# Altium footprint library Anemoia.PcbLib: 8 footprints
Each footprint in its own frame and in the unit in brackets; x right, y up, seen from the top. Pads: shape width x height; smd on the part's side, far side on the other; paste and mask are expansions set on the pad; w line width, h text height; cw(c..) or ccw(c..) is an arc to the next point about the centre after c.
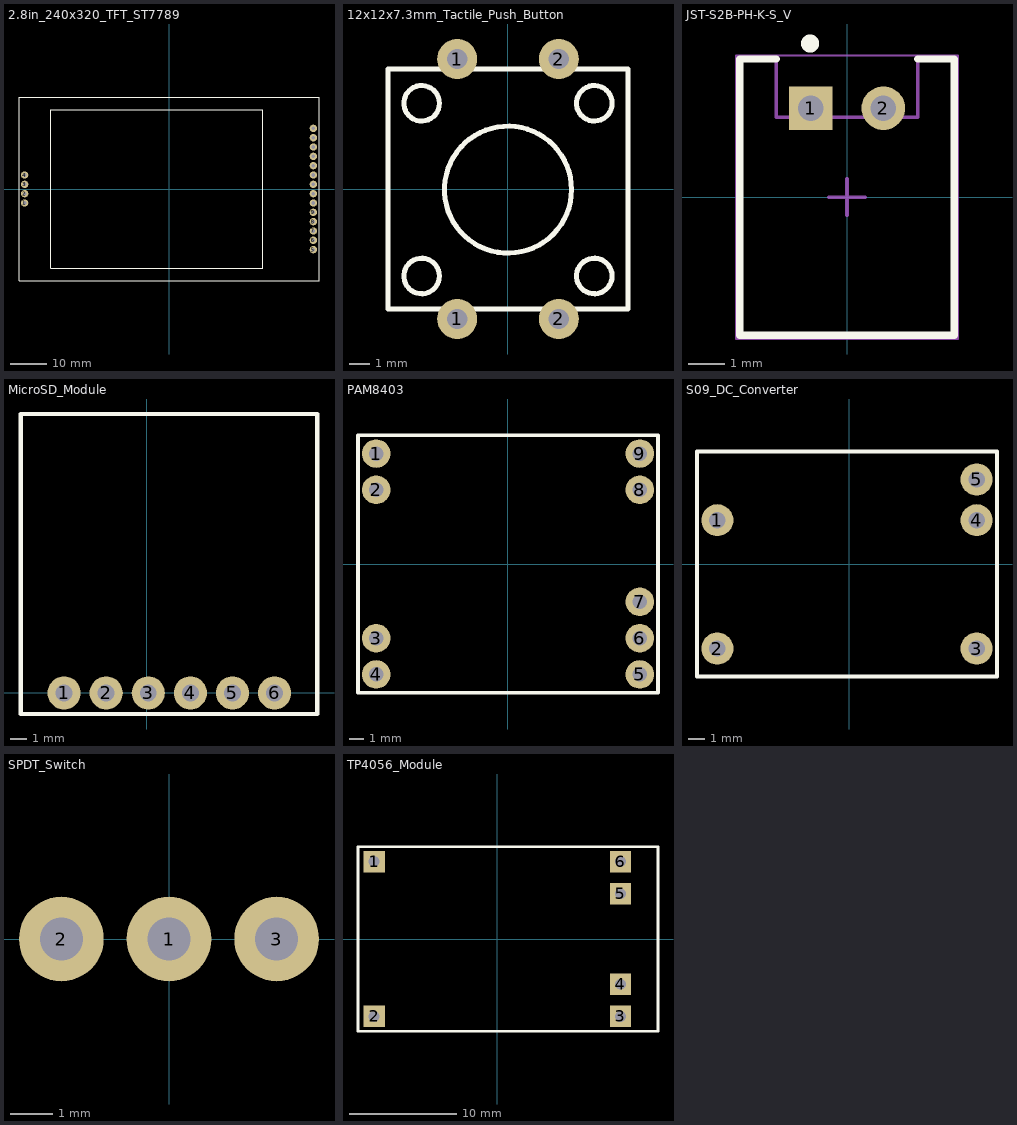
[diagram p0: the footprints below, top view; thin cyan lines are the x and y axes]

## 2.8in_240x320_TFT_ST7789 [mm]
pads (18):
  round 2 hole 1.02: 1(-39.313,-3.81) 2(-39.313,-1.27) 3(-39.313,1.27) 4(-39.313,3.81) 5(39.313,-16.51) 6(39.313,-13.97) 7(39.313,-11.43) 8(39.313,-8.89) 9(39.313,-6.35) 10(39.313,-3.81) 11(39.313,-1.27) 12(39.313,1.27) 13(39.313,3.81) 14(39.313,6.35) 15(39.313,8.89) 16(39.313,11.43) 17(39.313,13.97) 18(39.313,16.51)
Top Overlay:
  lines w0.254: -40.85,-25 40.85,-25 40.85,25 -40.85,25 -40.85,-25 ; -32.218,-21.6 -32.218,21.6 25.582,21.6 25.582,-21.6 -32.218,-21.6
3D body "TFT LCD 2.8 inch ILI9341 touch.step": height 6.9, standoff -0.45, extent -41.187,-24.987 40.512,25.012

## 12x12x7.3mm_Tactile_Push_Button [mm]
pads (4):
  round 2 hole 1.02: 1(-2.54,-6.5) 1(-2.54,6.5) 2(2.54,-6.5) 2(2.54,6.5)
Top Overlay:
  circle w0.254: c-4.318,4.286 r0.889
  circle w0.254: c4.318,4.286 r0.889
  circle w0.254: c0,-0.032 r3.175
  circle w0.254: c4.318,-4.351 r0.889
  circle w0.254: c-4.318,-4.351 r0.889
  lines w0.254: -6,-6 6,-6 6,6 -6,6 -6,-6
3D body "Push Button with Cap.step": height 11.65, standoff -2.6, extent -6.4,-6.46 6.4,6.54

## JST-S2B-PH-K-S_V [mm] "THD, 2-Leads, Body 7.6x5.9mm, Pitch 2mm"
height 4.8
pads (2):
  rect 1.2x1.2 hole 0.7: 1(-1,2.45)
  round 1.2 hole 0.7: 2(1,2.45)
Top Overlay:
  circle w0.25: c-1.016,4.228 r0.125
  lines w0.2: -1.95,3.8 -2.95,3.8 -2.95,-3.8 2.95,-3.8 2.95,3.8 1.95,3.8
Top 3D Body:
  lines w0.1: -2.95,-3.8 2.95,-3.8 2.95,3.8 1.95,3.8 1.95,2.2 -1.95,2.2 -1.95,3.8 -1.95,3.8 -2.95,3.8 -2.95,-3.8
Mechanical 15:
  lines w0.05: -3.05,-3.9 -3.05,3.9 3.05,3.9 3.05,-3.9 -3.05,-3.9
  lines w0.1: -0.5,0 0.5,0 ; 0,-0.5 0,0.5
3D body "S2B-PH-K-S.STEP": height 4.8, standoff -3.4, extent -2.9,-3.8 3,3.8

## MicroSD_Module [mm]
pads (6):
  round 2 hole 1.02: 1(-5,0) 2(-2.46,0) 3(0.08,0) 4(2.62,0) 5(5.16,0) 6(7.7,0)
Top Overlay:
  lines w0.254: -7.62,-1.27 10.28,-1.27 10.28,16.83 -7.62,16.83 -7.62,-1.27
Mechanical 1:
3D body "MicroSD Card Module - 1.stp": height 3.38, standoff -0.03, extent -7.705,-1.342 10.405,19.282

## PAM8403 [mm]
pads (9):
  round 2 hole 1.02: 1(-9.23,7.73) 2(-9.23,5.19) 3(-9.23,-5.19) 4(-9.23,-7.73) 5(9.23,-7.73) 6(9.23,-5.19) 7(9.23,-2.65) 8(9.23,5.19) 9(9.23,7.73)
Top Overlay:
  lines w0.254: -10.5,-9 10.5,-9 10.5,9 -10.5,9 -10.5,-9
3D body "PAM8403.step": height 2.9, standoff 0.05, extent -10.65,-9 10.65,9

## S09_DC_Converter [mm]
pads (5):
  round 2 hole 1.02: 1(-8.23,2.73) 2(-8.23,-5.27) 3(7.93,-5.27) 4(7.93,2.73) 5(7.93,5.27)
Top Overlay:
  lines w0.254: -9.5,-7 9.2,-7 9.2,7 -9.5,7 -9.5,-7

## SPDT_Switch [mm]
pads (3):
  round 2 hole 1.02: 1(0,0) 2(-2.54,0) 3(2.54,0)

## TP4056_Module [mm]
pads (6):
  rect 2x2 hole 1.02: 1(-11.5,7.225) 2(-11.5,-7.225) 3(11.5,-7.225) 4(11.5,-4.225) 5(11.5,4.225) 6(11.5,7.225)
Top Overlay:
  lines w0.254: -13,-8.6 15,-8.6 15,8.6 -13,8.6 -13,-8.6
3D body "TP4056_Charging_Module_Type_C.step": height 3.64, standoff -0.5, extent -14.15,-8.7 15.15,8.7